# Altium integrated library TSM-110-01-L-SV.IntLib: 1 symbol
Pins are listed as number, name and electrical type; pins without a type are passive.

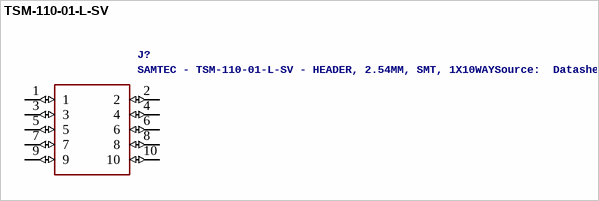
[diagram p0: symbol TSM-110-01-L-SV]

## TSM-110-01-L-SV
designator J?, comment SAMTEC - TSM-110-01-L-SV - HEADER, 2.54MM, SMT, 1X10WAYSource:  Datasheet
GateName_1: G$1; SymbolName_1: TSM-110-01-L-SV; LibraryName: TSM-110-01-L-SV; DeviceSetName: TSM-110-01-L-SV; Package: TSM-110-01-L-SH; Manufacturer_Name: SAMTEC; Manufacturer_Part_Number: TSM-110-01-L-SV; RS_Part_Number: 7656619P; RS_Price-Stock: http://uk.rs-online.com/web/p/products/7656619P; Arrow_Part_Number: TSM-110-01-L-SV; Arrow_Price-Stock: http://uk.rs-online.com/web/p/products/7656619P; Description: SAMTEC - TSM-110-01-L-SV - HEADER, 2.54MM, SMT, 1X10WAY; Height: mm
footprint TSM-110-01-L-SH
pins: 1 (io), 2 (io), 3 (io), 4 (io), 5 (io), 6 (io), 7 (io), 8 (io), 9 (io), 10 (io)